# EAGLE library part 8_PIN_HEADER (library PowerComponents)
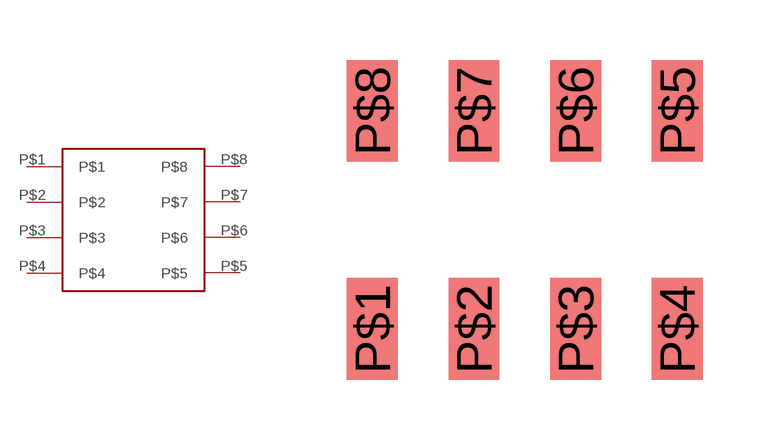
[diagram p2: symbol with the pads of 8_PIN_HEADER; footprint 8_PIN_HEADER]

Designator prefix -

## 8_PIN_HEADER  [8_PIN_HEADER]
P$1  P$1
P$2  P$2
P$3  P$3
P$4  P$4
P$5  P$5
P$6  P$6
P$7  P$7
P$8  P$8

## Footprint 8_PIN_HEADER (pad centres in mm)
smd 1.27 x 2.54: P$1 0,0; P$2 2.54,0; P$3 5.08,0; P$4 7.62,0; P$5 7.62,5.46; P$6 5.08,5.46; P$7 2.54,5.46; P$8 0,5.46